# Altium footprint library con6_10114830-10106LF.PcbLib: 1 footprints
Each footprint in its own frame and in the unit in brackets; x right, y up, seen from the top. Pads: shape width x height; smd on the part's side, far side on the other; paste and mask are expansions set on the pad; w line width, h text height; cw(c..) or ccw(c..) is an arc to the next point about the centre after c.
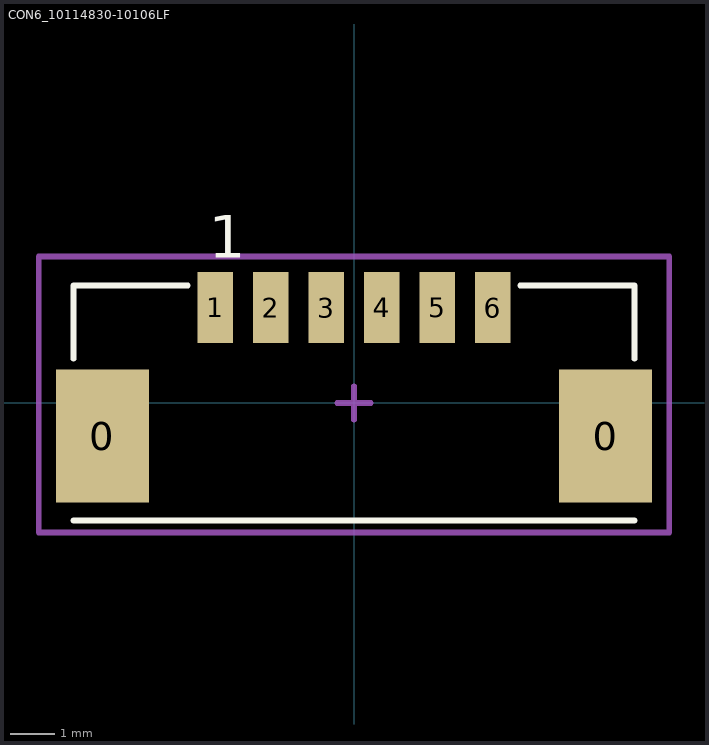
[diagram p0: the footprint, top view; thin cyan lines are the x and y axes]

## CON6_10114830-10106LF [mm] "1.25mm pitch"
height 3.4
pads (8):
  rect 2.1x3 smd: 0(-5.675,-0.75) 0(5.675,-0.75)
  rect 0.8x1.6 smd: 1(-3.125,2.15) 2(-1.875,2.15) 3(-0.625,2.15) 4(0.625,2.15) 5(1.875,2.15) 6(3.125,2.15)
Top Overlay:
  lines w0.127: -6.325,-2.65 6.325,-2.65 ; -6.325,1 -6.325,2.65 -3.75,2.65 ; 3.75,2.65 6.275,2.65 6.325,2.65 6.325,1
  text "1" at -3.275,3.275 h0.95
Mechanical 15:
  lines w0.127: -0.381,0 0.381,0 ; 0,-0.381 0,0.381 ; -7.112,-2.921 -7.112,0.635 -7.112,3.302 7.112,3.302 7.112,-2.921 -7.112,-2.921
3D body "10114830-XXX06LFc.STEP": height 3.45, standoff -0.03, extent -6.325,-2.65 6.325,2.65